# Altium footprint library BW1098OAK_R0M0E0.PcbLib: 4 footprints
Each footprint in its own frame and in the unit in brackets; x right, y up, seen from the top. Pads: shape width x height; smd on the part's side, far side on the other; paste and mask are expansions set on the pad; w line width, h text height; cw(c..) or ccw(c..) is an arc to the next point about the centre after c.
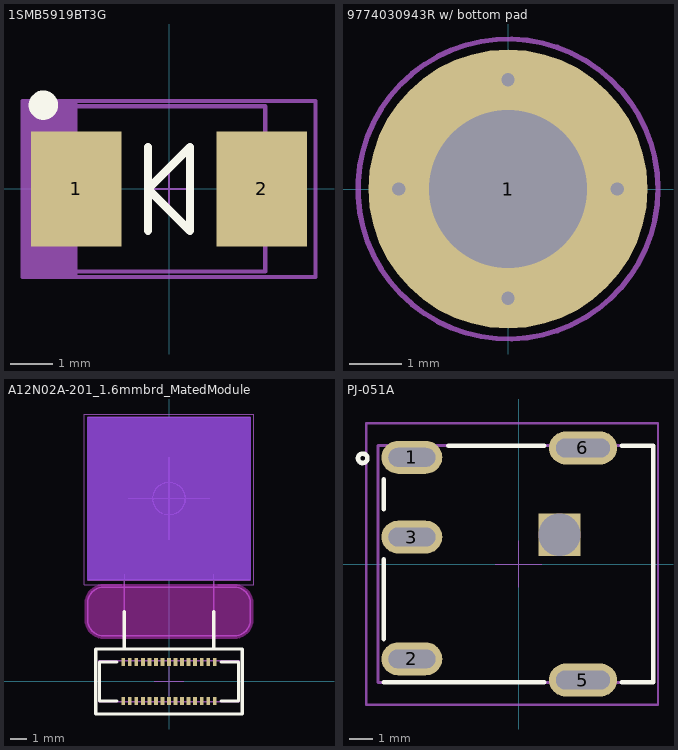
[diagram p0: the footprints below, top view; thin cyan lines are the x and y axes]

## 1SMB5919BT3G [mm] "Molded, 2-Leads, Body 4.6x3.95mm"
height 2.42
pads (2):
  rect 2.159x2.743 smd: 1(-2.21,0) 2(2.21,0)
Top Overlay:
  circle w0.5: c-3,2 r0.1
  lines w0.2: -0.5,-1 -0.5,0 ; -0.5,0 -0.5,1 -0.5,0 ; -0.5,0 0.5,1 ; -0.5,0 0.5,-1 0.5,0 ; 0.5,0 0.5,1 ; 0.5,0 0.5,1
Top Assembly:
  rectangle: -3.5,-2.106 -2.181,2.102
  lines w0.1: -3.5,-2.1 3.5,-2.1 3.5,2.1 -3.5,2.1 -3.5,-2.1
  text "'.Designator'" at 0,0.188 h1
Top Courtyard:
  lines w0.05: -0.5,0 0.5,0 ; 0,-0.5 0,0.5 ; -3.5,-2.1 3.486,-2.1 3.486,2.1 -3.5,2.1 -3.5,-2.1
Top Component Outline:
  lines w0.1: -2.3,-1.975 2.3,-1.975 2.3,1.975 -2.3,1.975 -2.3,-1.975
3D body: height 2.42, standoff 0, extent -2.3,-1.975 2.3,1.975

## 9774030943R w/ bottom pad [mm] "3mm spacer (no threading) w/ bottom pad"
height 3
pads (1):
  round 5.3 / inner round 3 / far side round 5.3 hole 3 mask+0.05: 1(0,0)
via 2.075,0 diameter 0.508 hole 0.254
via -2.075,0 diameter 0.508 hole 0.254
via 0,-2.075 diameter 0.508 hole 0.254
via 0,2.075 diameter 0.508 hole 0.254
Top Paste:
  region: -2.581,0.317 -1.576,0.278 -1.55,0.397 -1.471,0.628 -1.359,0.845 -1.214,1.042 -1.042,1.214 -0.845,1.359 -0.628,1.471 -0.397,1.55 -0.278,1.576 -0.317,2.581 -0.531,2.554 -0.946,2.432 -1.334,2.242 -1.686,1.991 -1.991,1.686 -2.242,1.334 -2.432,0.946 -2.554,0.531
  region: -0.317,-2.581 -0.278,-1.576 -0.397,-1.55 -0.628,-1.471 -0.845,-1.359 -1.042,-1.214 -1.214,-1.042 -1.359,-0.845 -1.471,-0.628 -1.55,-0.397 -1.576,-0.278 -2.581,-0.317 -2.554,-0.531 -2.432,-0.946 -2.242,-1.334 -1.991,-1.686 -1.686,-1.991 -1.334,-2.242 -0.946,-2.432 -0.531,-2.554
  region: 2.581,-0.317 1.576,-0.278 1.55,-0.397 1.471,-0.628 1.359,-0.845 1.214,-1.042 1.042,-1.214 0.845,-1.359 0.628,-1.471 0.397,-1.55 0.278,-1.576 0.317,-2.581 0.531,-2.554 0.946,-2.432 1.334,-2.242 1.686,-1.991 1.991,-1.686 2.242,-1.334 2.432,-0.946 2.554,-0.531
  region: 0.317,2.581 0.278,1.576 0.397,1.55 0.628,1.471 0.845,1.359 1.042,1.214 1.214,1.042 1.359,0.845 1.471,0.628 1.55,0.397 1.576,0.278 2.581,0.317 2.554,0.531 2.432,0.946 2.242,1.334 1.991,1.686 1.686,1.991 1.334,2.242 0.946,2.432 0.531,2.554
Top Assembly:
  circle w0.1: c0,0 r2.85
  text "'.Designator'" at 0,0 h1
Top Courtyard:
  circle w0.05: c0,0 r2.85
  lines w0.05: -0.5,0 0.5,0 ; 0,-0.5 0,0.5
Bottom Courtyard:
  circle w0.05: c0,0 r2.85
Top Component Outline:
  circle w0.1: c0,0 r2.175
3D body "9774030943R_Downloads_STP_9774030943R_rev1.stp": height 3.05, standoff -1.35, extent -2.172,-2.175 2.172,2.175

## A12N02A-201_1.6mmbrd_MatedModule [mm] "connector: 24-5804-030-000-829+ (1.4mm height w/ module mated)"
height 1.4
pads (30):
  rect 0.22x0.5 smd mask+0.05: 1(-2.8,-1.2) 2(-2.4,-1.2) 3(-2,-1.2) 4(-1.6,-1.2) 5(-1.2,-1.2) 6(-0.8,-1.2) 7(-0.4,-1.2) 8(0,-1.2) 9(0.4,-1.2) 10(0.8,-1.2) 11(1.2,-1.2) 12(1.6,-1.2) 13(2,-1.2) 14(2.4,-1.2) 15(2.8,-1.2) 16(2.8,1.2) 17(2.4,1.2) 18(2,1.2) 19(1.6,1.2) 20(1.2,1.2) 21(0.8,1.2) 22(0.4,1.2) 23(0,1.2) 24(-0.4,1.2) 25(-0.8,1.2) 26(-1.2,1.2) 27(-1.6,1.2) 28(-2,1.2) 29(-2.4,1.2) 30(-2.8,1.2)
Bottom Layer keep-out:
  region: -4.999,16.237 4.999,16.237 4.999,6.239 -4.999,6.239
Top Overlay:
  lines w0.2: -3.2,-1.2 -4.275,-1.2 -4.275,1.2 -3.2,1.2 ; -2.75,2 -2.75,4.3 ; 2.75,2 2.75,4.3 ; 3.2,-1.2 4.275,-1.2 4.275,1.2 3.2,1.2 ; -4.5,-2 4.5,-2 4.5,2 -4.5,2 -4.5,-2
Bottom Overlay:
  lines w0.2: -2.75,4.3 -2.75,6.6 ; 2.75,4.3 2.75,6.6 ; -5,6.238 5,6.238 5,16.238 -5,16.238 -5,6.238
Keep-Out Layer:
  board cut-out: -5,4.8 -5,4.898 -4.962,5.092 -4.886,5.274 -4.777,5.437 -4.637,5.577 -4.474,5.686 -4.292,5.762 -4.098,5.8 -4,5.8 4,5.8 4.098,5.8 4.292,5.762 4.474,5.686 4.637,5.577 4.777,5.437 4.886,5.274 4.962,5.092 5,4.898 5,4.8 5,3.8 5,3.702 4.962,3.508 4.886,3.326 4.777,3.163 4.637,3.023 4.474,2.914 4.292,2.838 4.098,2.8 4,2.8 -4,2.8 -4.098,2.8 -4.292,2.838 -4.474,2.914 -4.637,3.023 -4.777,3.163 -4.886,3.326 -4.962,3.508 -5,3.702 -5,3.8
Keep-Out Layer:
  lines w0.2: -5.1,3.8 ccw(c-4,3.8) -4,2.7 0,2.7 4,2.7 ccw(c4,3.8) 5.1,3.8 5.1,4.8 ccw(c4,4.8) 4,5.9 -4,5.9 ccw(c-4,4.8) -5.1,4.8 -5.1,3.8
Top Assembly:
  lines w0.1: -2.75,4.3 -2.75,2 ; 2.75,4.3 2.75,2 ; -2.75,2 2.75,2 ; -2.75,2 -4.5,2 -4.5,-2 4.5,-2 4.5,2 2.75,2
  text "'.Designator'" at 0,0.006 h1
Bottom Assembly:
  circle w0.1: c0,11.238 r1
  lines w0.1: -2.75,4.3 -2.75,6.6 ; -2.51,11.238 2.51,11.238 ; 0,8.738 0,13.738 ; 2.75,4.3 2.75,6.6 ; 2.51,11.238 2.51,11.238 ; 4.999,16.238 4.999,6.239 -4.999,6.239 -4.999,16.237 5,16.237 5,16.238 ; 4.999,16.238 5,16.238
Board:
  lines w0.1: -5,3.8 ccw(c-4,3.8) -4,2.8 4,2.8 ccw(c4,3.8) 5,3.8 5,4.8 ccw(c4,4.8) 4,5.8 -4,5.8 ccw(c-4,4.8) -5,4.8 -5,3.8
Top Courtyard:
  lines w0.05: -2.75,4.3 -2.75,2 ; -0.91,0.006 0,0.006 ; 0,-0.904 0,0.006 ; 0,0.916 0,0.006 ; 0.91,0.006 0,0.006 ; 2.75,4.3 2.75,2 ; -2.75,2 -4.5,2 -4.5,-2 4.5,-2 4.5,2 2.75,2 ; -2.75,2 2.75,2
Bottom Courtyard:
  lines w0.05: -2.91,5.938 -5.2,5.938 -5.2,16.438 5.2,16.438 5.2,15.238 5.2,5.938 3,5.938
Top Component Outline:
  lines w0.1: -4.3,-1.25 4.3,-1.25 4.3,1.262 -4.3,1.262 -4.3,-1.25
Bottom Component Outline:
  lines w0.1: -4.999,6.239 4.999,6.239 4.999,16.237 -4.999,16.237 -4.999,6.239
3D body: height 1.27, standoff 1.1, extent -2.75,2 2.75,4.3
3D body: height 1.4, standoff 1, extent -4.5,-2 4.5,2
3D body "K3D-WP7A-S030VA1-V2_JAE_Proprietary.STEP": height 0.65, standoff -0.03, extent -4.3,-1.25 4.3,1.262
3D body: height 0.55, standoff 0.35, extent -2.75,4.3 2.75,6.6
3D body: height 6.18, standoff 0.25, extent -4.999,6.239 4.999,16.237
3D body: height 3.29, standoff -3.29, extent -4.445,-2.032 -4.445,-2.032
3D body: height 3.29, standoff -3.29, extent -4.699,-4.191 -4.699,-4.191
3D body: height 3.29, standoff -3.29, extent -4.191,-5.715 -4.191,-5.715
3D body: height 3.29, standoff -3.29, extent -4.572,2.032 -4.572,2.032

## PJ-051A [mm] "2.5A RA 2.1x5.5mm"
pads (6):
  oval 2.6x1.4 hole 0.8 slot 2 at 0 deg: 1(-4.55,4.55) 2(-4.55,-4.05) 3(-4.55,1.15)
  oval 2.9x1.4 hole 0.8 slot 2.3 at 0 deg: 5(2.75,-4.95) 6(2.75,4.95)
  rect 1.8x1.8 hole 1.8 square unplated: ""(1.75,1.25)
Top Overlay:
  circle w0.2: c-6.65,4.51 r0.2
  lines w0.2: -5.75,-5.05 1.1,-5.05 ; -5.75,-3.2 -5.75,0.2 ; -5.75,2.34 -5.75,3.61 ; -3,5.05 1.1,5.05 ; 4.4,-5.05 5.75,-5.05 5.75,5.05 4.4,5.05
Top Assembly:
  lines w0.1: -6.5,-6 5.95,-6 5.95,6 -6.5,6 -6.5,-6
  text "'.Designator'" at 0,0.188 h1
Top Courtyard:
  lines w0.05: -1,0 0,0 ; 0,-1 0,0 ; 0,1 0,0 ; 1,0 0,0 ; -6.5,-6 5.95,-6 5.95,6 -6.5,6 -6.5,-6
Top Component Outline:
  lines w0.127: -6,-5.05 5.75,-5.05 5.75,5.05 -6,5.05 -6,-5.05
3D body "CUI_DEVICES_PJ-051A.step": height 7.3, standoff -2.5, extent -6,-5.05 5.75,5.05